# Altium schematic symbol library Microchip.SchLib: 16 symbols
Pins are listed as number, name and electrical type; pins without a type are passive.

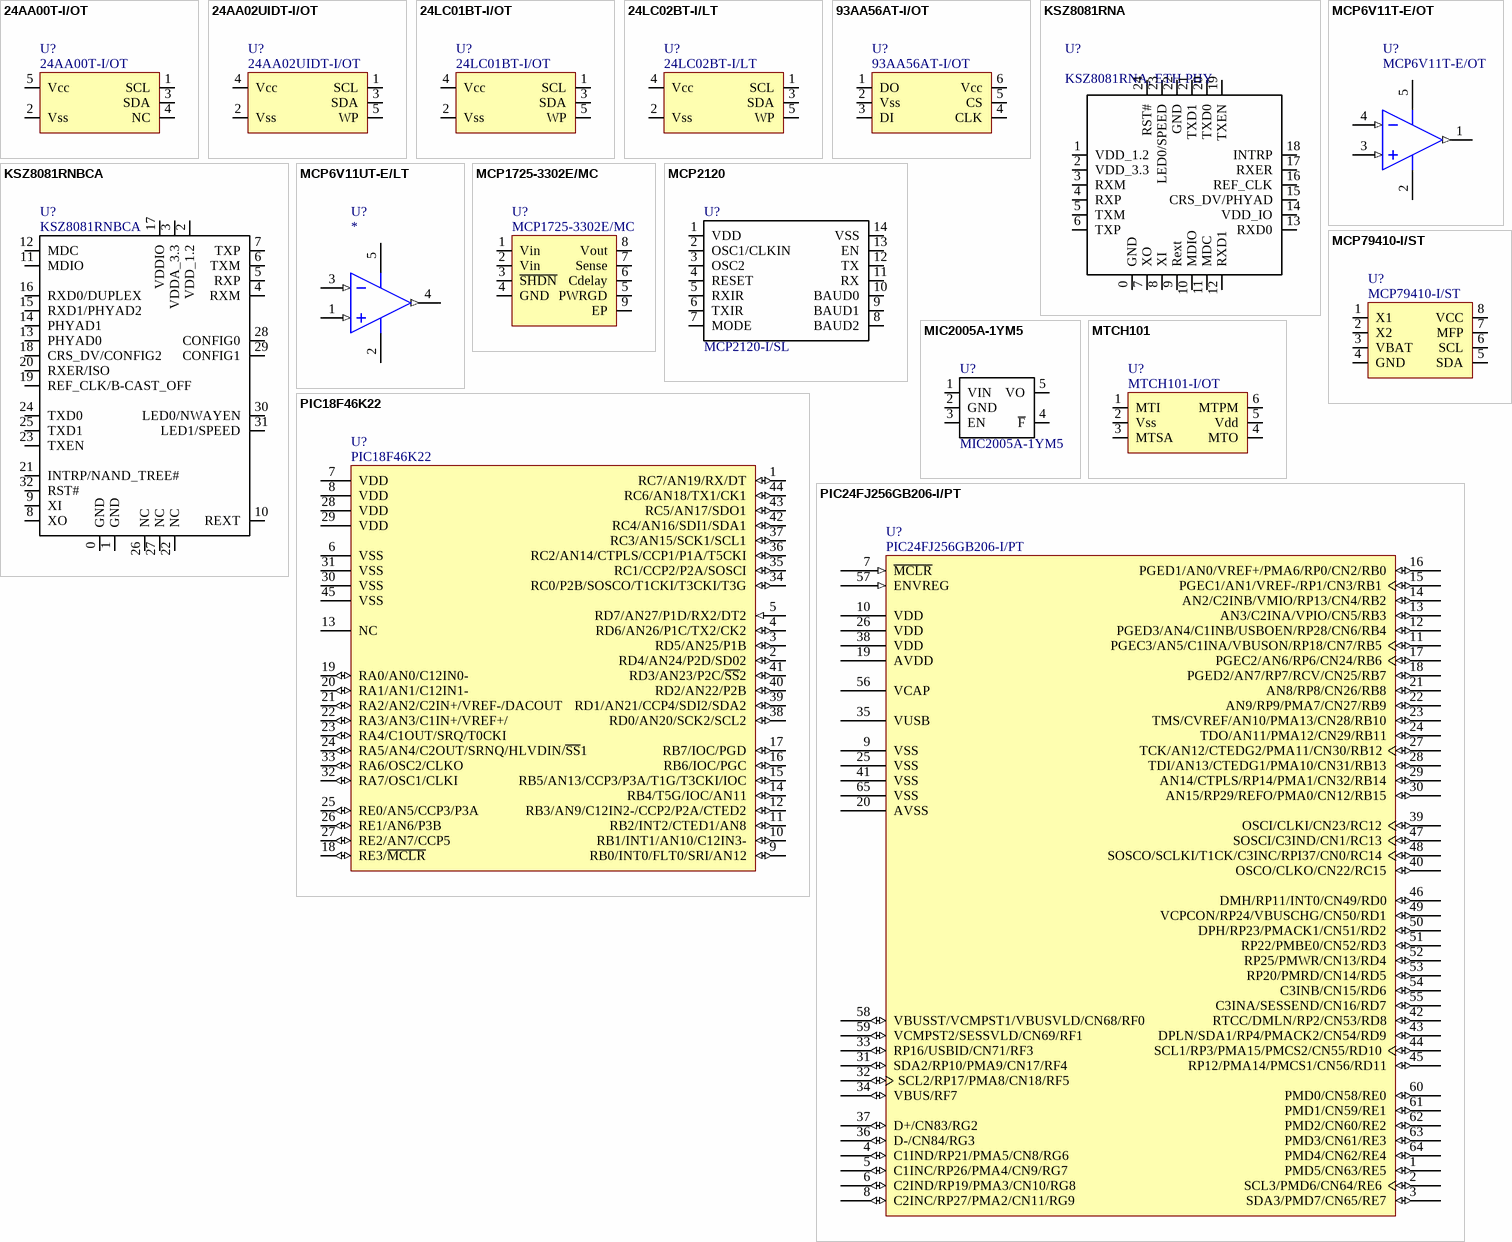
[diagram p0: symbols 24AA00T-I/OT to PIC24FJ256GB206-I/PT]

## 24AA00T-I/OT
designator U?
MICROCHIP - 24AA00T-I/OT - EEPROM SERIAL 16 BYTE, SMD, SOT235; Catalog: Farnell; Catalog number: 1331264; Value: 24AA00T-I/OT; Price: 0.196
footprint SOT23-5BL (SOT23, 5-Leads, Body 2.9x1.6mm, Pitch 0.95mm, Lead Span 2.8mm, IPC High Density)
pins: 1 SCL, 2 Vss, 3 SDA, 4 NC, 5 Vcc

## 24AA02UIDT-I/OT
designator U?
MICROCHIP  24AA02UIDT-I/OT  EEPROM, 2K, I2C, UNIQUE ID, 5SOT-23; Catalog: Farnell; Catalog number: 2345557; Value: 24AA02UIDT-I/OT; Price: 0.182
footprint SOT23-5BL (SOT23, 5-Leads, Body 2.9x1.6mm, Pitch 0.95mm, Lead Span 2.8mm, IPC High Density)
pins: 1 SCL, 2 Vss, 3 SDA, 4 Vcc, 5 WP

## 24LC01BT-I/OT
designator U?
MICROCHIP  24LC01BT-I/OT  EEPROM SERIAL 1KBIT, 24LC01, SOT-23-5; Value: 24LC02BT-I/LT; Catalog: Farnell; Catalog number: 9757880; Price: 0.157
footprint SOT23-5BL (SOT23, 5-Leads, Body 2.9x1.6mm, Pitch 0.95mm, Lead Span 2.8mm, IPC High Density)
pins: 1 SCL, 2 Vss, 3 SDA, 4 Vcc, 5 WP

## 24LC02BT-I/LT
designator U?
MICROCHIP  24AA02UIDT-I/OT  EEPROM, 2K, I2C, UNIQUE ID, 5SOT-23; Catalog: Farnell; Catalog number: 2126070; Value: 24LC02BT-I/LT; Price: 0.20
footprint SOT353-5L (SOT353, 5-Leads, Body 2x1.3mm, Pitch 0.65mm, Lead Span 2.1mm, IPC High Density)
pins: 1 SCL, 2 Vss, 3 SDA, 4 Vcc, 5 WP

## 93AA56AT-I/OT
designator U?
Catalog: Farnell; Catalog number: 1331419; Value: 93AA56AT-I/OT; Price: 0.24
footprint SOT23-6BL (SOT23, 6-Leads, Body 3,1x3,2mm (max), Pitch 0,95mm, IPC Medium Density)
pins: 1 DO, 2 Vss, 3 DI, 4 CLK, 5 CS, 6 Vcc

## KSZ8081RNA
designator U?, comment KSZ8081RNA, ETH PHY
footprint QFN24_0.5mm_4x4mm
pins: 0 GND, 1 VDD_1.2, 2 VDD_3.3, 3 RXM, 4 RXP, 5 TXM, 6 TXP, 7 XO, 8 XI, 9 Rext, 10 MDIO, 11 MDC, 12 RXD1, 13 RXD0, 14 VDD_IO, 15 CRS_DV/PHYAD, 16 REF_CLK, 17 RXER, 18 INTRP, 19 TXEN, 20 TXD0, 21 TXD1, 22 GND, 23 LED0/SPEED, 24 RST#

## KSZ8081RNBCA
designator U?
Manufacturer: Microchip; Part Number: KSZ8081RNBCA
footprint QFN_32_option1 (QFN, 32-Leads, Body 5,0x5,0mm (max), Pitch 0,50mm)
pins: 0 GND, 1 GND, 2 VDD_1.2, 3 VDDA_3.3, 4 RXM, 5 RXP, 6 TXM, 7 TXP, 8 XO, 9 XI, 10 REXT, 11 MDIO, 12 MDC, 13 PHYAD0, 14 PHYAD1, 15 RXD1/PHYAD2, 16 RXD0/DUPLEX, 17 VDDIO, 18 CRS_DV/CONFIG2, 19 REF_CLK/B-CAST_OFF, 20 RXER/ISO, 21 INTRP/NAND_TREE#, 22 NC, 23 TXEN, 24 TXD0, 25 TXD1, 26 NC, 27 NC, 28 CONFIG0, 29 CONFIG1, 30 LED0/NWAYEN, 31 LED1/SPEED, 32 RST#

## MCP6V11T-E/OT
designator U?
MICROCHIP  MCP6V11T-E/OT  OP AMP, 80KHZ, 8UV, SOT-23-5; Catalog: Farnell; Value: MCP6V11T-E/OT; Catalog page: *; Price: *
footprint SOT23-5BL (SOT23, 5-Leads, Body 2.9x1.6mm, Pitch 0.95mm, Lead Span 2.8mm, IPC High Density)
pins: 1 OUT (out), 2 -VS (power), 3 +IN (in), 4 -IN (in), 5 +VS (power)

## MCP6V11UT-E/LT
designator U?
MCP6V11UT-E/LT; Catalog: Farnell; Catalog number: 2113881; Value: MCP6V11UT-E/LT; Catalog page: *; Price: *
footprint SOT23-5BL (SOT23, 5-Leads, Body 2.9x1.6mm, Pitch 0.95mm, Lead Span 2.8mm, IPC High Density)
pins: 1 +IN (in), 2 -VS (power), 3 -IN (in), 4 OUT (out), 5 +VS (power)

## MCP1725-3302E/MC
designator U?
MICROCHIP  MCP1725-3302E/MC  IC, LDO, 500MA, 3.3V, 8DFN; Caralog: Farnell; Catalog number: 1851959; Price: 0,37; Value: MCP1725-3302E/MC
footprint DFN 8 3x2 0.5mm
pins: 1 Vin, 2 Vin, 3 ~{SHDN}, 4 GND, 5 PWRGD, 6 Cdelay, 7 Sense, 8 Vout, 9 EP

## MCP2120
designator U?  Part Number: MCP2120-I/SL  (hidden comment: MCP2120)
Infrared Encoder/Decoder; Manufacturer: Microchip; Price 1: 1.22; Price 100: 1.14; Price 1000: 1.10
footprint SO-14 (SO-14 1.27p)
pins: 1 VDD, 2 OSC1/CLKIN, 3 OSC2, 4 RESET, 5 RXIR, 6 TXIR, 7 MODE, 8 BAUD2, 9 BAUD1, 10 BAUD0, 11 RX, 12 TX, 13 EN, 14 VSS

## MCP79410-I/ST
designator U?
MICROCHIP - MCP79410-I/ST - RTCC, 12C, 1K EE, 64B SRAM,8TSSOP; Caralog: Farnell; Catalog number: 1823156; Value: AT24C512C-XHD-B; Price: 0.862
footprint TSSOP-8 pich 0.65 (TSOP, 8-Leads, Body 3.1x4.5mm (max), Pitch 0.65mm, IPC Medium Density)
pins: 1 X1, 2 X2, 3 VBAT, 4 GND, 5 SDA, 6 SCL, 7 MFP, 8 VCC

## MIC2005A-1YM5
designator U?, comment Part Number: MIC2005A-1YM5  (hidden comment: Power Switch ICs - Active High, 0.5A, High Side, SOT23-5)
Manufacturer: Microchip; Price 1: 0.40; Price 100: 0.20; Price 1000: 0.18
footprint SOT23-5BL (SOT23, 5-Leads, Body 2.9x1.6mm, Pitch 0.95mm, Lead Span 2.8mm, IPC High Density)
pins: 1 VIN, 2 GND, 3 EN, 4 ~{F}, 5 VO

## MTCH101
designator U?, comment MTCH101-I/OT
Catalog: Farnell; Catalog number: 2319099; Value: MTCH101-I/OT; Price: 0.444
footprint SOT23-6BL (SOT23, 6-Leads, Body 3,1x3,2mm (max), Pitch 0,95mm, IPC Medium Density)
pins: 1 MTI, 2 Vss, 3 MTSA, 4 MTO, 5 Vdd, 6 MTPM

## PIC18F46K22
designator U?
PIC18F46K22-I/ML; Catalog: *; Catalog number: *; Value: PIC18F46K22; Price: *
footprint QFN 44 pin 0.65pich
pins: 1 RC7/AN19/RX/DT (io), 2 RD4/AN24/P2D/SD02 (io), 3 RD5/AN25/P1B (io), 4 RD6/AN26/P1C/TX2/CK2 (io), 5 RD7/AN27/P1D/RX2/DT2 (in), 6 VSS (power), 7 VDD (power), 8 VDD (power), 9 RB0/INT0/FLT0/SRI/AN12 (io), 10 RB1/INT1/AN10/C12IN3- (io), 11 RB2/INT2/CTED1/AN8 (io), 12 RB3/AN9/C12IN2-/CCP2/P2A/CTED2 (io), 13 NC (power), 14 RB4/T5G/IOC/AN11 (io), 15 RB5/AN13/CCP3/P3A/T1G/T3CKI/IOC (io), 16 RB6/IOC/PGC (io), 17 RB7/IOC/PGD (io), 18 RE3/~{MCLR} (io), 19 RA0/AN0/C12IN0- (io), 20 RA1/AN1/C12IN1- (io), 21 RA2/AN2/C2IN+/VREF-/DACOUT (io), 22 RA3/AN3/C1IN+/VREF+/ (io), 23 RA4/C1OUT/SRQ/T0CKI (io), 24 RA5/AN4/C2OUT/SRNQ/HLVDIN/~{SS}1 (io), 25 RE0/AN5/CCP3/P3A (io), 26 RE1/AN6/P3B (io), 27 RE2/AN7/CCP5 (io), 28 VDD (power), 29 VDD (power), 30 VSS (power), 31 VSS (power), 32 RA7/OSC1/CLKI (io), 33 RA6/OSC2/CLKO (io), 34 RC0/P2B/SOSCO/T1CKI/T3CKI/T3G (io), 35 RC1/CCP2/P2A/SOSCI (io), 36 RC2/AN14/CTPLS/CCP1/P1A/T5CKI (io), 37 RC3/AN15/SCK1/SCL1 (io), 38 RD0/AN20/SCK2/SCL2 (io), 39 RD1/AN21/CCP4/SDI2/SDA2 (io), 40 RD2/AN22/P2B (io), 41 RD3/AN23/P2C/~{SS}2 (io), 42 RC4/AN16/SDI1/SDA1 (io), 43 RC5/AN17/SDO1 (io), 44 RC6/AN18/TX1/CK1 (io), 45 VSS (power)

## PIC24FJ256GB206-I/PT
designator U?
MICROCHIP - PIC24FJ256GB206-I/PT - MCU, 16BIT, PIC24, 32MHZ, TQFP-64; Value: PIC24FJ256GB206-I/PT; Price: *; Caralog: *; Catalog number: *
footprint TQFP 64 0.50 pich (TSQFP, 64-Leads, Body 12,0x12,0mm (max), Pitch 0,50mm, IPC Medium Density)
pins: 1 PMD5/CN63/RE5 (io), 2 SCL3/PMD6/CN64/RE6 (io), 3 SDA3/PMD7/CN65/RE7 (io), 4 C1IND/RP21/PMA5/CN8/RG6 (io), 5 C1INC/RP26/PMA4/CN9/RG7 (io), 6 C2IND/RP19/PMA3/CN10/RG8 (io), 7 ~{MCLR} (in), 8 C2INC/RP27/PMA2/CN11/RG9 (io), 9 VSS (power), 10 VDD (power), 11 PGEC3/AN5/C1INA/VBUSON/RP18/CN7/RB5 (io), 12 PGED3/AN4/C1INB/USBOEN/RP28/CN6/RB4 (io), 13 AN3/C2INA/VPIO/CN5/RB3 (io), 14 AN2/C2INB/VMIO/RP13/CN4/RB2 (io), 15 PGEC1/AN1/VREF-/RP1/CN3/RB1 (io), 16 PGED1/AN0/VREF+/PMA6/RP0/CN2/RB0 (io), 17 PGEC2/AN6/RP6/CN24/RB6 (io), 18 PGED2/AN7/RP7/RCV/CN25/RB7 (io), 19 AVDD (power), 20 AVSS (power), 21 AN8/RP8/CN26/RB8 (io), 22 AN9/RP9/PMA7/CN27/RB9 (io), 23 TMS/CVREF/AN10/PMA13/CN28/RB10 (io), 24 TDO/AN11/PMA12/CN29/RB11 (io), 25 VSS (power), 26 VDD (power), 27 TCK/AN12/CTEDG2/PMA11/CN30/RB12 (io), 28 TDI/AN13/CTEDG1/PMA10/CN31/RB13 (io), 29 AN14/CTPLS/RP14/PMA1/CN32/RB14 (io), 30 AN15/RP29/REFO/PMA0/CN12/RB15 (io), 31 SDA2/RP10/PMA9/CN17/RF4 (io), 32 SCL2/RP17/PMA8/CN18/RF5 (io), 33 RP16/USBID/CN71/RF3 (io), 34 VBUS/RF7 (io), 35 VUSB (power), 36 D-/CN84/RG3 (io), 37 D+/CN83/RG2 (io), 38 VDD (power), 39 OSCI/CLKI/CN23/RC12 (io), 40 OSCO/CLKO/CN22/RC15 (io), 41 VSS (power), 42 RTCC/DMLN/RP2/CN53/RD8 (io), 43 DPLN/SDA1/RP4/PMACK2/CN54/RD9 (io), 44 SCL1/RP3/PMA15/PMCS2/CN55/RD10 (io), 45 RP12/PMA14/PMCS1/CN56/RD11 (io), 46 DMH/RP11/INT0/CN49/RD0 (io), 47 SOSCI/C3IND/CN1/RC13 (io), 48 SOSCO/SCLKI/T1CK/C3INC/RPI37/CN0/RC14 (io), 49 VCPCON/RP24/VBUSCHG/CN50/RD1 (io), 50 DPH/RP23/PMACK1/CN51/RD2 (io), 51 RP22/PMBE0/CN52/RD3 (io), 52 RP25/PMWR/CN13/RD4 (io), 53 RP20/PMRD/CN14/RD5 (io), 54 C3INB/CN15/RD6 (io), 55 C3INA/SESSEND/CN16/RD7 (io), 56 VCAP (power), 57 ENVREG (in), 58 VBUSST/VCMPST1/VBUSVLD/CN68/RF0 (io), 59 VCMPST2/SESSVLD/CN69/RF1 (io), 60 PMD0/CN58/RE0 (io), 61 PMD1/CN59/RE1 (io), 62 PMD2/CN60/RE2 (io), 63 PMD3/CN61/RE3 (io), 64 PMD4/CN62/RE4 (io), 65 VSS (power)